# EAGLE library part 5-1462037-3 (library Relays)
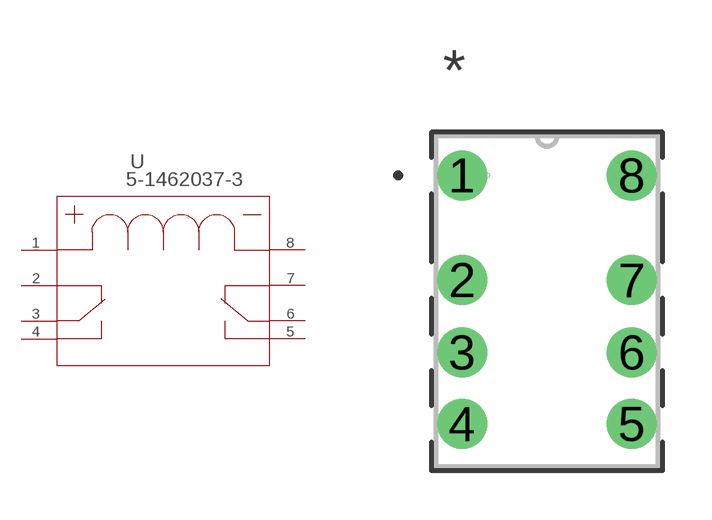
[diagram p29: symbol with the pads of RELAY8-268X397_226; footprint RELAY8-268X397_226]

Designator prefix U

## 5-1462037-3 (BUILT_BY: EMA_UL_Team; CATEGORY: Signal Relays; COPYRIGHT: Copyright (C) 2016 Accelerated Designs. All rights reserved; DESCRIPTION: IM41TS=IM RELAY 100 MW 3 V BIS; MANUFACTURER_PART_NUMBER: 5-1462037-3; PART_STATUS: active; SERIES: Axicom IM; VENDOR: TE Connectivity)  [RELAY8-268X397_226]
1  1  pas
2  2  pas
3  3  pas
4  4  pas
5  5  pas
6  6  pas
7  7  pas
8  8  pas

## Footprint RELAY8-268X397_226 (pad centres in mm)
drill 0.762 pad 1.524: 1 -5.182,7.696; 2 -5.182,4.496; 3 -5.182,2.286; 4 -5.182,0.102; 5 0,0.102; 6 0,2.286; 7 0,4.496; 8 0,7.696